# Altium schematic symbol library 0508(150080RS75000).SchLib: 1 symbol
Pins are listed as number, name and electrical type; pins without a type are passive.

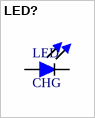
[diagram p0: symbol LED?]

## LED?
designator LED, comment CHG
SMD mono-color CHIP LED
footprint PCBComponent_1
pins: 0, 1